# EAGLE library part SEEED-STUDIO-XIAO-NRF52840 (library Seeed Studio XIAO)
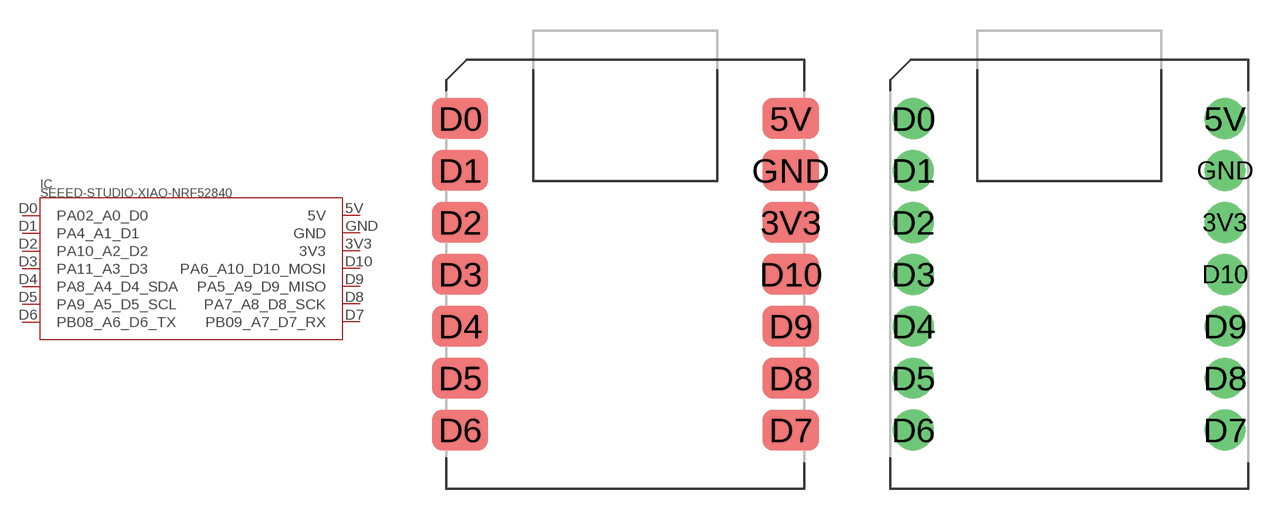
[diagram p1: symbol with the pads of XIAO-NRF52840-SMD; footprints XIAO-NRF52840-SMD, XIAO-NRF52840-DIP]

Designator prefix IC

## SEEED-STUDIO-XIAO-NRF52840-SMD  [XIAO-NRF52840-SMD]
3V3  3V3
5V  5V
D0  PA02_A0_D0
D1  PA4_A1_D1
D2  PA10_A2_D2
D3  PA11_A3_D3
D4  PA8_A4_D4_SDA
D5  PA9_A5_D5_SCL
D6  PB08_A6_D6_TX
D7  PB09_A7_D7_RX
D8  PA7_A8_D8_SCK
D9  PA5_A9_D9_MISO
D10  PA6_A10_D10_MOSI
GND  GND

## SEEED-STUDIO-XIAO-NRF52840-DIP  [XIAO-NRF52840-DIP]
Pads as for XIAO-NRF52840-SMD

## SEEED-STUDIO-XIAO-NRF52840-PROTO  [XIAO-NRF52840-SMD-PROTO]
Pads as for XIAO-NRF52840-SMD

## Footprint XIAO-NRF52840-SMD (pad centres in mm)
Seeed Studio XIAO nRF52840 https://wiki.seeedstudio.com/XIAO_BLE/
smd 2.75 x 2: 3V3 8.1,-7.96; 5V 8.1,-2.88; D0 -8.065,-2.88; D1 -8.065,-5.42; D2 -8.065,-7.96; D3 -8.065,-10.5; D4 -8.065,-13.04; D5 -8.065,-15.58; D6 -8.065,-18.12; D7 8.1,-18.12; D8 8.1,-15.58; D9 8.1,-13.04; D10 8.1,-10.5; GND 8.1,-5.42

## Footprint XIAO-NRF52840-DIP (pad centres in mm)
Seeeduino XIAO with Origin fitting USB connector. DIP mount type
drill 1 pad 2: 3V3 7.62,-7.96; 5V 7.62,-2.88; D0 -7.62,-2.88; D1 -7.62,-5.42; D2 -7.62,-7.96; D3 -7.62,-10.5; D4 -7.62,-13.04; D5 -7.62,-15.58; D6 -7.62,-18.12; D7 7.62,-18.12; D8 7.62,-15.58; D9 7.62,-13.04; D10 7.62,-10.5; GND 7.62,-5.42

## Footprint XIAO-NRF52840-SMD-PROTO (pad centres in mm)
Seeed Studio XIAO nRF52840 https://wiki.seeedstudio.com/XIAO_BLE/
smd 1 x 2: 3V3 9,-7.96; 5V 9,-2.88; D0 -9,-2.88; D1 -9,-5.42; D2 -9,-7.96; D3 -9,-10.5; D4 -9,-13.04; D5 -9,-15.58; D6 -9,-18.12; D7 9,-18.12; D8 9,-15.58; D9 9,-13.04; D10 9,-10.5; GND 9,-5.42